# Altium schematic symbol library ADUM3471.SchLib: 1 symbol
Pins are listed as number, name and electrical type; pins without a type are passive.

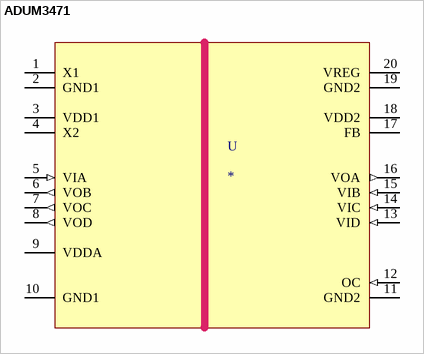
[diagram p0: symbol ADUM3471]

## ADUM3471
designator U
DIG ISOLATOR, 4CH, PWM CNTRL, 20SSOP; farnell: 1849073
pins: 1 X1 (power), 2 GND1 (power), 3 VDD1 (power), 4 X2 (power), 5 VIA (in), 6 VOB (out), 7 VOC (out), 8 VOD (out), 9 VDDA (power), 10 GND1 (power), 11 GND2 (power), 12 OC (in), 13 VID (in), 14 VIC (in), 15 VIB (in), 16 VOA (out), 17 FB, 18 VDD2 (power), 19 GND2 (power), 20 VREG (power)